# EAGLE library part ARDUINO_PRO_MICRO (library satnogs)
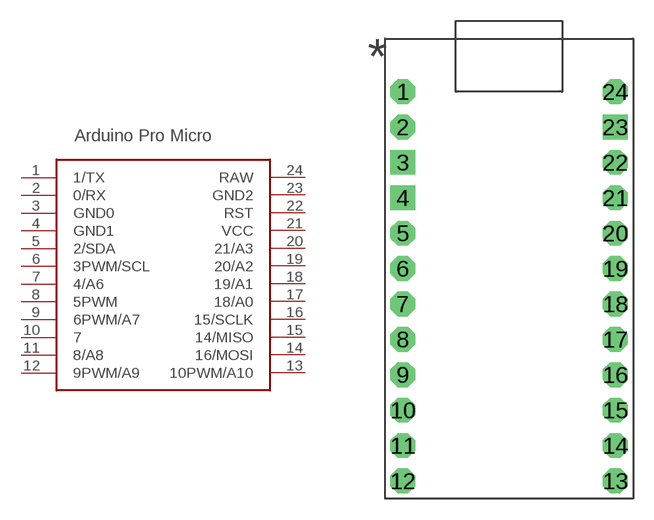
[diagram p0: symbol with the pads of ARDUINO_MICRO_PRO; footprint ARDUINO_MICRO_PRO]

Designator prefix B

## ARDUINO_PRO_MICRO"  [ARDUINO_MICRO_PRO]
1  1/TX
2  0/RX
3  GND0
4  GND1
5  2/SDA
6  3PWM/SCL
7  4/A6
8  5PWM
9  6PWM/A7
10  7
11  8/A8
12  9PWM/A9
13  10PWM/A10
14  16/MOSI
15  14/MISO
16  15/SCLK
17  18/A0
18  19/A1
19  20/A2
20  21/A3
21  VCC
22  RST
23  GND2
24  RAW

## Footprint ARDUINO_MICRO_PRO (pad centres in mm)
drill 1 pad 1.778 octagon: 1 -7.62,12.7; 2 -7.62,10.16; 5 -7.62,2.54; 6 -7.62,0; 7 -7.62,-2.54; 8 -7.62,-5.08; 9 -7.62,-7.62; 10 -7.62,-10.16; 11 -7.62,-12.7; 12 -7.62,-15.24; 13 7.62,-15.24; 14 7.62,-12.7; 15 7.62,-10.16; 16 7.62,-7.62; 17 7.62,-5.08; 18 7.62,-2.54; 19 7.62,0; 20 7.62,2.54; 21 7.62,5.08; 22 7.62,7.62; 24 7.62,12.7
drill 1 pad 1.778 square: 3 -7.62,7.62; 4 -7.62,5.08; 23 7.62,10.16